# EAGLE library part SP3012-06 (library custom-devices)
TVS Diode Arrays 6-Ch 12KV 0.5pF
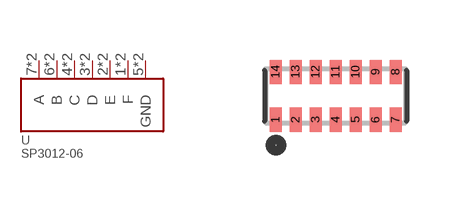
[diagram p9: symbol with the pads of UDFN14; footprint UDFN14]

Designator prefix U

## SP3012-06_UTG (DIGI-KEY: F5914CT-ND; MOUSER: 576-SP3012-06UTG)  [UDFN14]
1  F  pas
2  E  pas
3  D  pas
4  C  pas
5  GND  sup
6  B  pas
7  A  pas
8  A  pas
9  B  pas
10  GND  sup
11  C  pas
12  D  pas
13  E  pas
14  F  pas

## Footprint UDFN14 (pad centres in mm)
smd 0.3 x 0.6: 1 -1.5,-0.6; 2 -1,-0.6; 3 -0.5,-0.6; 4 0,-0.6; 5 0.5,-0.6; 6 1,-0.6; 7 1.5,-0.6; 8 1.5,0.6; 9 1,0.6; 10 0.5,0.6; 11 0,0.6; 12 -0.5,0.6; 13 -1,0.6; 14 -1.5,0.6